# Altium footprint library relays.PcbLib: 2 footprints
Each footprint in its own frame and in the unit in brackets; x right, y up, seen from the top. Pads: shape width x height; smd on the part's side, far side on the other; paste and mask are expansions set on the pad; w line width, h text height; cw(c..) or ccw(c..) is an arc to the next point about the centre after c.
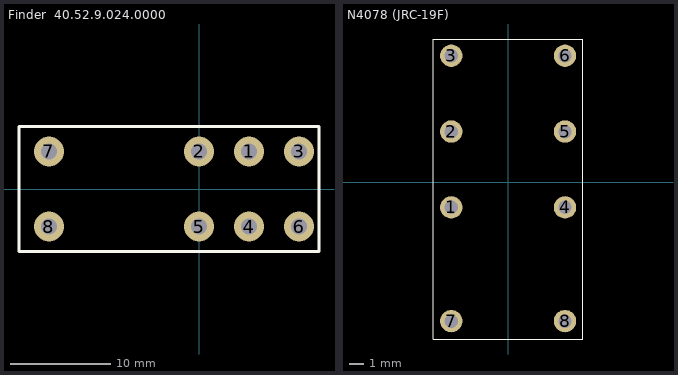
[diagram p0: the footprints below, top view; thin cyan lines are the x and y axes]

## Finder  40.52.9.024.0000 [mm]
height 25
pads (8):
  round 3 hole 1.6: 1(5,3.75) 2(0,3.75) 3(10,3.75) 4(5,-3.75) 5(0,-3.75) 6(10,-3.75) 7(-15,3.75) 8(-15,-3.75)
Top Overlay:
  lines w0.254: -18,-6.25 12,-6.25 12,6.25 -18,6.25 -18,-6.25
3D body: height 26, standoff 1, extent -18,-6.25 12,6.25
3D body: height 1, standoff -3, extent -15.496,-4.249 -14.5,-3.251
3D body: height 1, standoff -3, extent -15.496,3.251 -14.5,4.249
3D body: height 1, standoff -3, extent -0.496,3.251 0.5,4.249
3D body: height 1, standoff -3, extent -0.496,-4.249 0.5,-3.251
3D body: height 1, standoff -3, extent 4.504,-4.249 5.5,-3.251
3D body: height 1, standoff -3, extent 4.504,3.251 5.5,4.249
3D body: height 1, standoff -3, extent 9.504,-4.249 10.5,-3.251
3D body: height 1, standoff -3, extent 9.504,3.251 10.5,4.249

## N4078 (JRC-19F) [mm]
height 12.5
pads (8):
  round 1.5 hole 0.9: 1(-3.8,-1.68) 2(-3.8,3.4) 3(-3.8,8.48) 4(3.82,-1.68) 5(3.82,3.4) 6(3.82,8.48) 7(-3.8,-9.3) 8(3.82,-9.3)
Top Overlay:
  lines w0.05: -5,-10.5 -5,9.6 5,9.6 5,-10.5 -5,-10.5
3D body: height 12.5, standoff 0.5, extent -5,-10.5 5,9.6